# EAGLE library part ATZB-24-UFLR (library apbteam_zigbit)
ATZB-24-UFLR Package (External Antenna / UFLR connector) Created by florent@duchon.cc
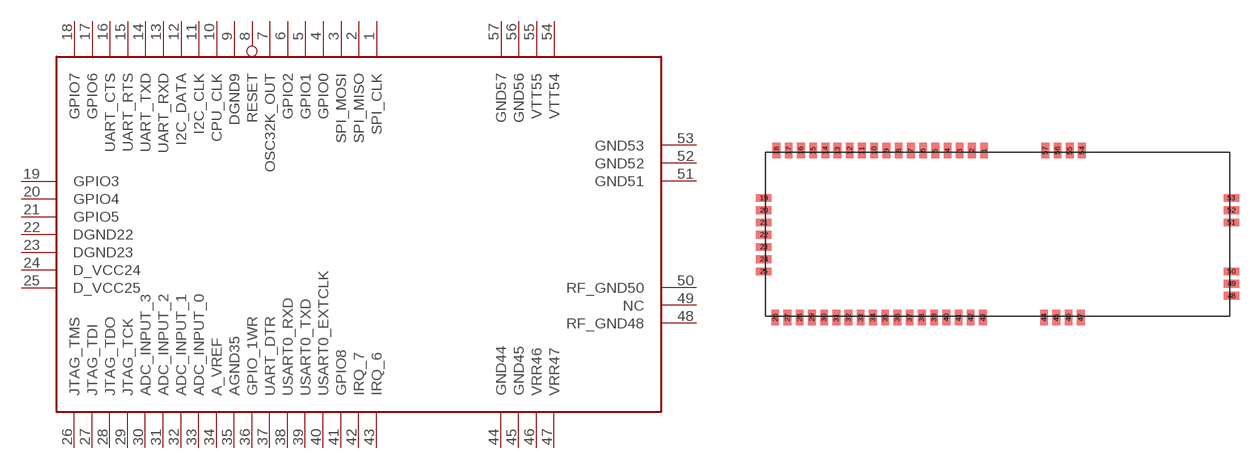
[diagram p1: symbol with the pads of ATZB-A24-UFLR; footprint ATZB-A24-UFLR]

Designator prefix -

## ATZB-24-UFLR  [ATZB-A24-UFLR]
1  SPI_CLK
2  SPI_MISO
3  SPI_MOSI
4  GPIO0
5  GPIO1
6  GPIO2
7  OSC32K_OUT
8  RESET
9  DGND9
10  CPU_CLK
11  I2C_CLK
12  I2C_DATA
13  UART_RXD
14  UART_TXD
15  UART_RTS
16  UART_CTS
17  GPIO6
18  GPIO7
19  GPIO3
20  GPIO4
21  GPIO5
22  DGND22
23  DGND23
24  D_VCC24
25  D_VCC25
26  JTAG_TMS
27  JTAG_TDI
28  JTAG_TDO
29  JTAG_TCK
30  ADC_INPUT_3
31  ADC_INPUT_2
32  ADC_INPUT_1
33  ADC_INPUT_0
34  A_VREF
35  AGND35
36  GPIO_1WR
37  UART_DTR
38  USART0_RXD
39  USART0_TXD
40  USART0_EXTCLK
41  GPIO8
42  IRQ_7
43  IRQ_6
44  GND44
45  GND45
46  VRR46
47  VRR47
48  RF_GND48
49  NC
50  RF_GND50
51  GND51
52  GND52
53  GND53
54  VTT54
55  VTT55
56  GND56
57  GND57

## Footprint ATZB-A24-UFLR (pad centres in mm)
ATZB-24-UFLR Footprint Created by florent@duchon.cc
smd 0.635 x 1.27: 1 17.9,0.135; 2 16.9,0.135; 3 15.9,0.135; 4 14.9,0.135; 5 13.9,0.135; 6 12.9,0.135; 7 11.9,0.135; 8 10.9,0.135; 9 9.9,0.135; 10 8.9,0.135; 11 7.9,0.135; 12 6.9,0.135; 13 5.9,0.135; 14 4.9,0.135; 15 3.9,0.135; 16 2.9,0.135; 17 1.9,0.135; 18 0.9,0.135; 26 0.8,-13.535; 27 1.8,-13.535; 28 2.8,-13.535; 29 3.8,-13.535; 30 4.8,-13.535; 31 5.8,-13.535; 32 6.8,-13.535; 33 7.8,-13.535; 34 8.8,-13.535; 35 9.8,-13.535; 36 10.8,-13.535; 37 11.8,-13.535; 38 12.8,-13.535; 39 13.8,-13.535; 40 14.8,-13.535; 41 15.8,-13.535; 42 16.8,-13.535; 43 17.8,-13.535; 44 22.8,-13.535; 45 23.8,-13.535; 46 24.8,-13.535; 47 25.8,-13.535; 54 25.9,0.135; 55 24.9,0.135; 56 23.9,0.135; 57 22.9,0.135
smd 1.27 x 0.635: 19 -0.135,-3.75; 20 -0.135,-4.75; 21 -0.135,-5.75; 22 -0.135,-6.75; 23 -0.135,-7.75; 24 -0.135,-8.75; 25 -0.135,-9.75; 48 38.135,-11.75; 49 38.135,-10.75; 50 38.135,-9.75; 51 38.135,-5.75; 52 38.135,-4.75; 53 38.135,-3.75